# Altium integrated library Analog Devices Data Converters Analog-to-Digital Converters.IntLib: 2404 symbols (part 66 of 346)
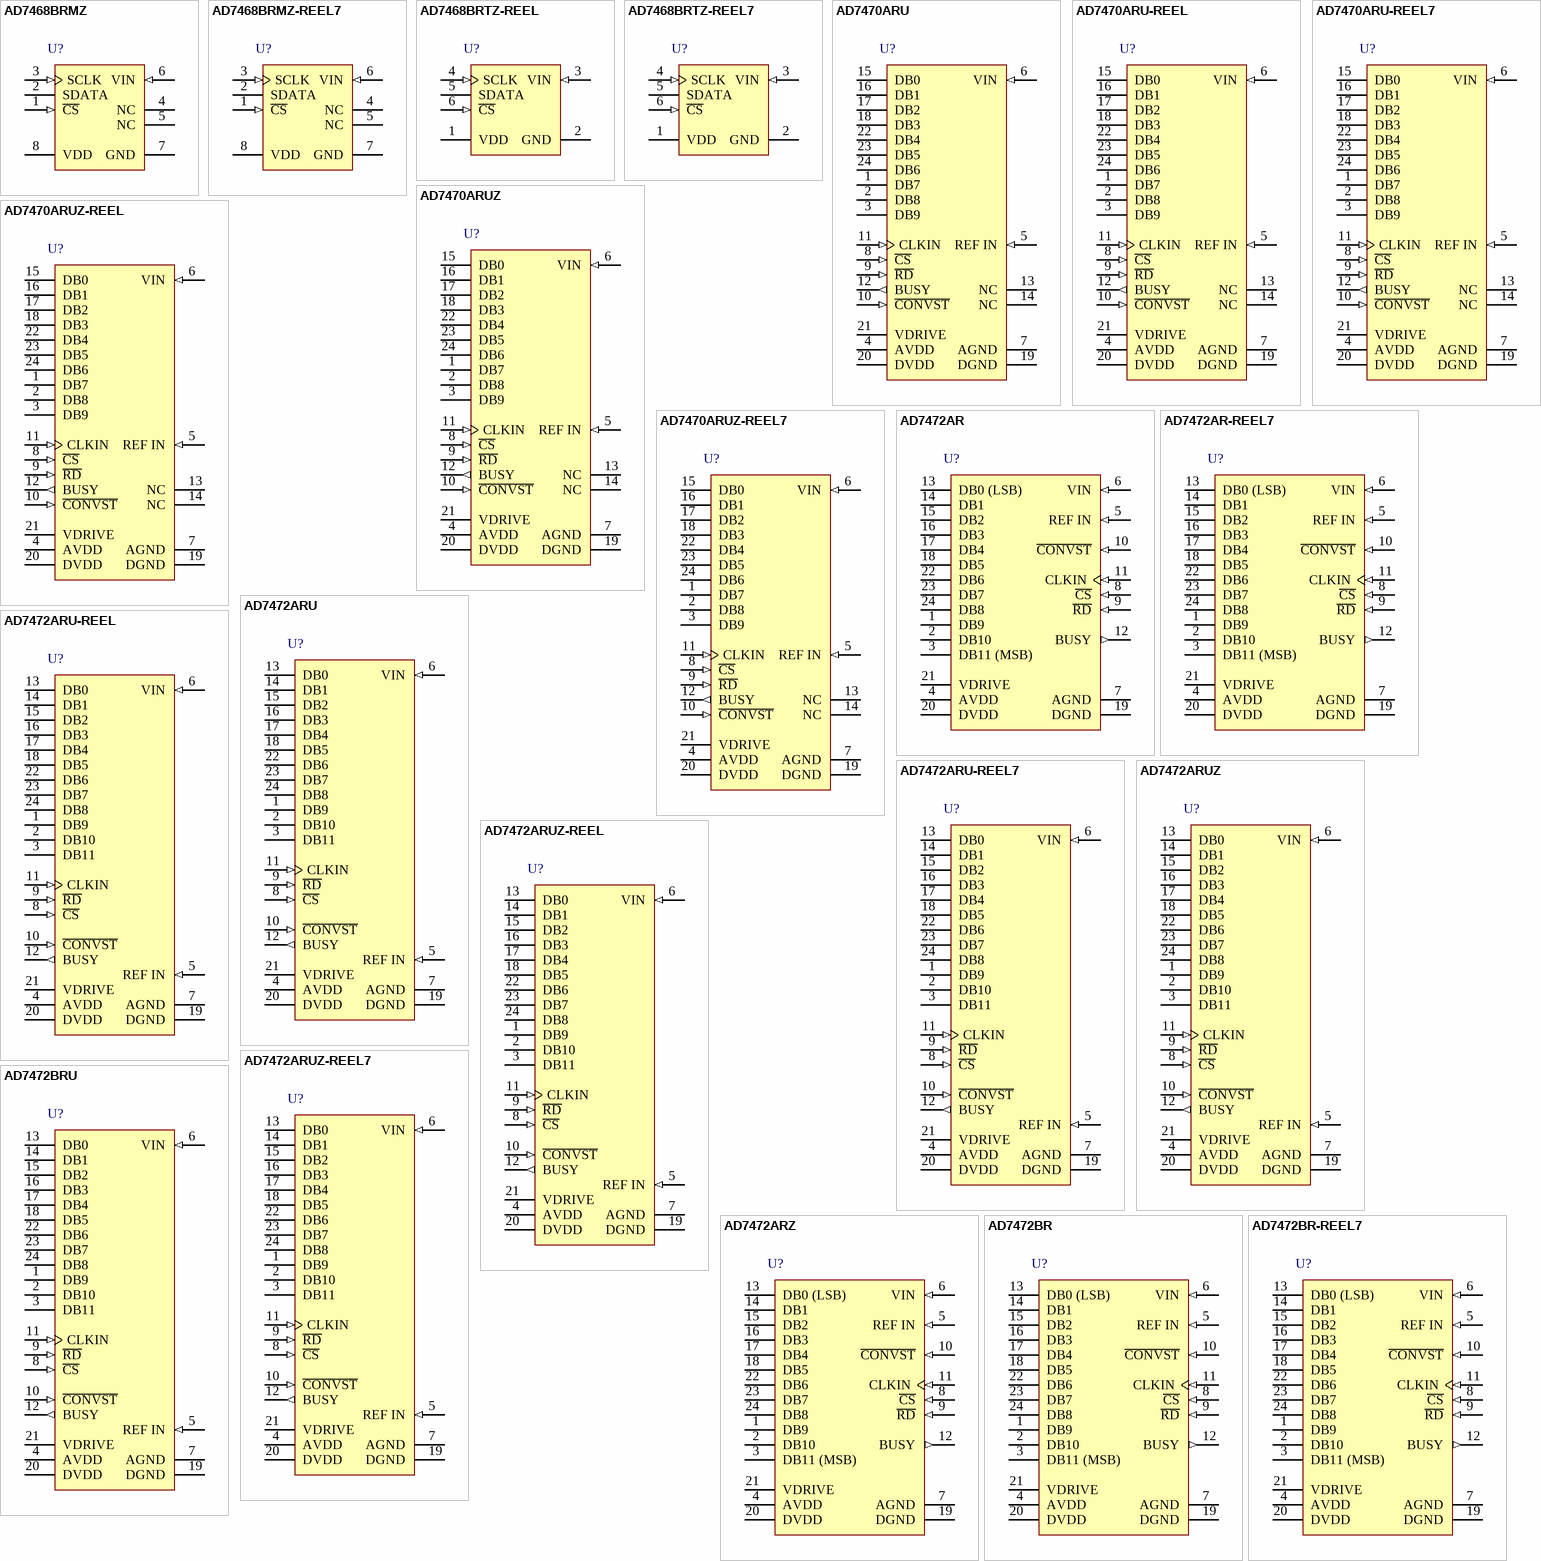
[diagram p191: symbols AD7468BRMZ to AD7472BRU]

## AD7472ARUZ-REEL7
designator U?
Single 12-Bit Analog-to-Digital Converter with Parallel Interface, 4 mW, 1.5MSPS, -40 to +85 degC, RU-24, Pb-Free, Reel; Generic Part Number: AD7472; Manufacturer: Analog Devices; PartNumber: AD7472ARUZ-REEL7; Resolution (Bits): 12; Channels: 1; Throughput Rate (SPS): 1.5M; Interface: Par; DatasheetVersion: Rev.B; PackageVersion: 2002; PackageReference: RU-24; PackageDescription: 24-Lead Thin Shrink Small Outline Package [TSSOP]; Supplier 1: Digi-Key; Supplier Part Number 1: AD7472ARUZ-REEL7-ND; Supplier 2: Mouser; Supplier Part Number 2: 584-AD7472ARUZ-R7; RoHS: Y; Packing: Reel; Mounting Technology: Surface Mount; Code_JEDEC: MO-153-AD; ComponentLink1Description: Manufacturer URL; ComponentLink1URL: http://www.analog.com/en/index.html; ComponentLink2Description: Datasheet; ComponentLink2URL: http://www.analog.com/static/imported-files/data_sheets/AD7470_7472.pdf; ComponentLink3Description: Package Specification; ComponentLink3URL: http://www.analog.com/static/imported-files/packages/380523655245964505593671154107510036154RU24.pdf; ComponentLink4Description: Product URL; ComponentLink4URL: http://www.analog.com/en/analog-to-digital-converters/ad-converters/ad7472/products/product.html
footprint RU-24_N (TSOP, 24-Leads, Body 7.8x4.4mm, Pitch 0.65mm, IPC Medium Density)
footprint RU-24_L (TSOP, 24-Leads, Body 7.8x4.4mm, Pitch 0.65mm, IPC High Density)
footprint RU-24_M (TSOP, 24-Leads, Body 7.8x4.4mm, Pitch 0.65mm, IPC Low Density)
pins: 1 DB9 (hiz) "Parallel digital outputs that provide the conversion result for the part. These are three-state outputs that are controlled by C\S\ and R\D\. The output high voltage level for these outputs is determined by the VDRIVE input.", 2 DB10 (hiz) "Parallel digital outputs that provide the conversion result for the part. These are three-state outputs that are controlled by C\S\ and R\D\. The output high voltage level for these outputs is determined by the VDRIVE input.", 3 DB11 (hiz) "Parallel digital outputs that provide the conversion result for the part. These are three-state outputs that are controlled by C\S\ and R\D\. The output high voltage level for these outputs is determined by the VDRIVE input.", 4 AVDD (power) "Analog Supply Voltage, 2.7 V to 5.25 V. This is the only supply voltage for all analog circuitry on the AD7472. The AVDD and DVDD voltages should ideally be at the same potential and must not be more than 0.3 V apart even on (See Datasheet)", 5 REF IN (in) "Reference Input. An external reference must be applied to this input. The voltage range for the external reference is 2.5 V +/-1% for specified performance.", 6 VIN (in) "Analog Input. Single-ended analog input channel. The input range is 0 V to REF IN. The analog input presents a high dc input impedance.", 7 AGND (power) "Analog Ground. Ground reference point for all analog circuitry on the AD7472. All analog input signals and any external reference signal should be referred to this AGND voltage. The AGND and DGND voltages should ideally be (See Datasheet)", 8 ~{CS} (in) "Chip Select. Active low logic input used in conjunction with R\D\ to access the conversion result. The conversion result is placed on the data bus following the falling edge of both C\S\ and R\D\. C\S\ and R\D\ are both (See Datasheet)", 9 ~{RD} (in) "Read Input. Logic input used in conjunction with C\S\ to access the conversion result. The conversion result is placed on the data bus following the falling edge of both C\S\ and R\D\. C\S\ and R\D\ are both connected to (See Datasheet)", 10 ~{CONVST} (in) "Conversion Start Input. Logic input used to initiate conversion. The input track-and-hold amplifier goes from track mode to hold mode on the falling edge of C\O\N\V\S\T\, and the conversion process is initiated at this point.(See Datasheet)", 11 CLKIN (in) "Master Clock Input. The clock source for the conversion process is applied to this pin. Conversion time for the AD7472 takes 14 clock cycles, and conversion time for the AD7470 takes 12 clock cycles. The frequency of this (See Datasheet)", 12 BUSY (out) "BUSY Output. Logic output indicating the status of the conversion process. The BUSY signal goes high after the falling edge of C\O\N\V\S\T\ and stays high for the duration of conversion. Once conversion is complete and the (See Datasheet)", 13 DB0 (hiz) "Parallel digital outputs that provide the conversion result for the part. These are three-state outputs that are controlled by C\S\ and R\D\. The output high voltage level for these outputs is determined by the VDRIVE input.", 14 DB1 (hiz) "Parallel digital outputs that provide the conversion result for the part. These are three-state outputs that are controlled by C\S\ and R\D\. The output high voltage level for these outputs is determined by the VDRIVE input.", 15 DB2 (hiz) "Parallel digital outputs that provide the conversion result for the part. These are three-state outputs that are controlled by C\S\ and R\D\. The output high voltage level for these outputs is determined by the VDRIVE input.", 16 DB3 (hiz) "Parallel digital outputs that provide the conversion result for the part. These are three-state outputs that are controlled by C\S\ and R\D\. The output high voltage level for these outputs is determined by the VDRIVE input.", 17 DB4 (hiz) "Parallel digital outputs that provide the conversion result for the part. These are three-state outputs that are controlled by C\S\ and R\D\. The output high voltage level for these outputs is determined by the VDRIVE input.", 18 DB5 (hiz) "Parallel digital outputs that provide the conversion result for the part. These are three-state outputs that are controlled by C\S\ and R\D\. The output high voltage level for these outputs is determined by the VDRIVE input.", 19 DGND (power) "Digital Ground. This is the ground reference point for all digital circuitry on the AD7472. The DGND and AGND voltages should ideally be at the same potential and must not be more than 0.3 V apart even on a transient basis.", 20 DVDD (power) "Digital Supply Voltage, 2.7 V to 5.25 V. This is the supply voltage for all digital circuitry on the AD7472 aside from the output drivers. The DVDD and AVDD voltages should ideally be at the same potential and must not be (See Datasheet)", 21 VDRIVE (power) "Supply Voltage for the Output Drivers, 2.7 V to 5.25 V. This voltage determines the output high voltage for the data output pins. It allows AVDD and DVDD to operate at 5 V (and maximize the dynamic performance of the (ADC), (See Datasheet)", 22 DB6 (hiz) "Parallel digital outputs that provide the conversion result for the part. These are three-state outputs that are controlled by C\S\ and R\D\. The output high voltage level for these outputs is determined by the VDRIVE input.", 23 DB7 (hiz) "Parallel digital outputs that provide the conversion result for the part. These are three-state outputs that are controlled by C\S\ and R\D\. The output high voltage level for these outputs is determined by the VDRIVE input.", 24 DB8 (hiz) "Parallel digital outputs that provide the conversion result for the part. These are three-state outputs that are controlled by C\S\ and R\D\. The output high voltage level for these outputs is determined by the VDRIVE input."

## AD7472ARZ
designator U?
Single 12-Bit Analog-to-Digital Converter with Parallel Interface, 4 mW, 1.5MSPS, -40 to +85 degC, RW-24, Pb-Free, Tube; Generic Part Number: AD7472; Manufacturer: Analog Devices; PartNumber: AD7472ARZ; Resolution (Bits): 12; Channels: 1; Throughput Rate (SPS): 1.5M; Interface: Par; DatasheetVersion: Rev.B; PackageVersion: 060706-A; PackageReference: RW-24; PackageDescription: 24-Lead Standard Small Outline Package [SOIC_W]; Supplier 1: Digi-Key; Supplier Part Number 1: AD7472ARZ-ND; Supplier 2: Farnell; Supplier Part Number 2: 1079343; Supplier 3: Newark; Supplier Part Number 3: 31M4263; Supplier 4: Mouser; Supplier Part Number 4: 584-AD7472ARZ; RoHS: Y; Packing: Tube; Mounting Technology: Surface Mount; Code_JEDEC: MS-013-AD; ComponentLink1Description: Manufacturer URL; ComponentLink1URL: http://www.analog.com/en/index.html; ComponentLink2Description: Datasheet; ComponentLink2URL: http://www.analog.com/static/imported-files/data_sheets/AD7470_7472.pdf; ComponentLink3Description: Package Specification; ComponentLink3URL: http://www.analog.com/static/imported-files/packages/33665150946139RW_24.pdf; ComponentLink4Description: Product URL; ComponentLink4URL: http://www.analog.com/en/analog-to-digital-converters/ad-converters/ad7472/products/product.html
footprint RW-24_N (SOIC, 24-Leads, Body 15.4x7.5mm, Pitch 1.27mm, IPC Medium Density)
footprint RW-24_L (SOIC, 24-Leads, Body 15.4x7.5mm, Pitch 1.27mm, IPC High Density)
footprint RW-24_M (SOIC, 24-Leads, Body 15.4x7.5mm, Pitch 1.27mm, IPC Low Density)
pins: 1 DB9 (hiz) "Parallel digital outputs that provide the conversion result for the part. These are three-state outputs that are controlled by C\S\ and R\D\. The output high voltage level for these outputs is determined by the VDRIVE input.", 2 DB10 (hiz) "Parallel digital outputs that provide the conversion result for the part. These are three-state outputs that are controlled by C\S\ and R\D\. The output high voltage level for these outputs is determined by the VDRIVE input.", 3 DB11 (MSB) (hiz) "Parallel digital outputs that provide the conversion result for the part. These are three-state outputs that are controlled by C\S\ and R\D\. The output high voltage level for these outputs is determined by the VDRIVE input.", 4 AVDD (power) "Analog Supply Voltage, 2.7 V to 5.25 V. This is the only supply voltage for all analog circuitry on the AD7472. The AVDD and DVDD voltages should ideally be at the same potential and must not be more than 0.3 V apart even on (See Datasheet)", 5 REF IN (in) "Reference Input. An external reference must be applied to this input. The voltage range for the external reference is 2.5 V +/-1% for specified performance.", 6 VIN (in) "Analog Input. Single-ended analog input channel. The input range is 0 V to REF IN. The analog input presents a high dc input impedance.", 7 AGND (power) "Analog Ground. Ground reference point for all analog circuitry on the AD7472. All analog input signals and any external reference signal should be referred to this AGND voltage. The AGND and DGND voltages should ideally be (See Datasheet)", 8 ~{CS} (in) "Chip Select. Active low logic input used in conjunction with R\D\ to access the conversion result. The conversion result is placed on the data bus following the falling edge of both C\S\ and R\D\. C\S\ and R\D\ are both (See Datasheet)", 9 ~{RD} (in) "Read Input. Logic input used in conjunction with C\S\ to access the conversion result. The conversion result is placed on the data bus following the falling edge of both C\S\ and R\D\. C\S\ and R\D\ are both connected to (See Datasheet)", 10 ~{CONVST} (in) "Conversion Start Input. Logic input used to initiate conversion. The input track-and-hold amplifier goes from track mode to hold mode on the falling edge of C\O\N\V\S\T\, and the conversion process is initiated at this point.(See Datasheet)", 11 CLKIN (in) "Master Clock Input. The clock source for the conversion process is applied to this pin. Conversion time for the AD7472 takes 14 clock cycles, and conversion time for the AD7470 takes 12 clock cycles. The frequency of this (See Datasheet)", 12 BUSY (out) "BUSY Output. Logic output indicating the status of the conversion process. The BUSY signal goes high after the falling edge of C\O\N\V\S\T\ and stays high for the duration of conversion. Once conversion is complete and the (See Datasheet)", 13 DB0 (LSB) (hiz) "Parallel digital outputs that provide the conversion result for the part. These are three-state outputs that are controlled by C\S\ and R\D\. The output high voltage level for these outputs is determined by the VDRIVE input.", 14 DB1 (hiz) "Parallel digital outputs that provide the conversion result for the part. These are three-state outputs that are controlled by C\S\ and R\D\. The output high voltage level for these outputs is determined by the VDRIVE input.", 15 DB2 (hiz) "Parallel digital outputs that provide the conversion result for the part. These are three-state outputs that are controlled by C\S\ and R\D\. The output high voltage level for these outputs is determined by the VDRIVE input.", 16 DB3 (hiz) "Parallel digital outputs that provide the conversion result for the part. These are three-state outputs that are controlled by C\S\ and R\D\. The output high voltage level for these outputs is determined by the VDRIVE input.", 17 DB4 (hiz) "Parallel digital outputs that provide the conversion result for the part. These are three-state outputs that are controlled by C\S\ and R\D\. The output high voltage level for these outputs is determined by the VDRIVE input.", 18 DB5 (hiz) "Parallel digital outputs that provide the conversion result for the part. These are three-state outputs that are controlled by C\S\ and R\D\. The output high voltage level for these outputs is determined by the VDRIVE input.", 19 DGND (power) "Digital Ground. This is the ground reference point for all digital circuitry on the AD7472. The DGND and AGND voltages should ideally be at the same potential and must not be more than 0.3 V apart even on a transient basis.", 20 DVDD (power) "Digital Supply Voltage, 2.7 V to 5.25 V. This is the supply voltage for all digital circuitry on the AD7472 aside from the output drivers. The DVDD and AVDD voltages should ideally be at the same potential and must not be (See Datasheet)", 21 VDRIVE (power) "Supply Voltage for the Output Drivers, 2.7 V to 5.25 V. This voltage determines the output high voltage for the data output pins. It allows AVDD and DVDD to operate at 5 V (and maximize the dynamic performance of the (ADC), (See Datasheet)", 22 DB6 (hiz) "Parallel digital outputs that provide the conversion result for the part. These are three-state outputs that are controlled by C\S\ and R\D\. The output high voltage level for these outputs is determined by the VDRIVE input.", 23 DB7 (hiz) "Parallel digital outputs that provide the conversion result for the part. These are three-state outputs that are controlled by C\S\ and R\D\. The output high voltage level for these outputs is determined by the VDRIVE input.", 24 DB8 (hiz) "Parallel digital outputs that provide the conversion result for the part. These are three-state outputs that are controlled by C\S\ and R\D\. The output high voltage level for these outputs is determined by the VDRIVE input."

## AD7472BR
designator U?
Single 12-Bit Analog-to-Digital Converter with Parallel Interface, 4 mW, 1.5MSPS, -40 to +85 degC, RW-24, Tube; Generic Part Number: AD7472; Manufacturer: Analog Devices; PartNumber: AD7472BR; Resolution (Bits): 12; Channels: 1; Throughput Rate (SPS): 1.5M; Interface: Par; DatasheetVersion: Rev.B; PackageVersion: 060706-A; PackageReference: RW-24; PackageDescription: 24-Lead Standard Small Outline Package [SOIC_W]; RoHS: N; Packing: Tube; Mounting Technology: Surface Mount; Code_JEDEC: MS-013-AD; ComponentLink1Description: Manufacturer URL; ComponentLink1URL: http://www.analog.com/en/index.html; ComponentLink2Description: Datasheet; ComponentLink2URL: http://www.analog.com/static/imported-files/data_sheets/AD7470_7472.pdf; ComponentLink3Description: Package Specification; ComponentLink3URL: http://www.analog.com/static/imported-files/packages/33665150946139RW_24.pdf; ComponentLink4Description: Product URL; ComponentLink4URL: http://www.analog.com/en/analog-to-digital-converters/ad-converters/ad7472/products/product.html
footprint RW-24_N (SOIC, 24-Leads, Body 15.4x7.5mm, Pitch 1.27mm, IPC Medium Density)
footprint RW-24_L (SOIC, 24-Leads, Body 15.4x7.5mm, Pitch 1.27mm, IPC High Density)
footprint RW-24_M (SOIC, 24-Leads, Body 15.4x7.5mm, Pitch 1.27mm, IPC Low Density)
pins: 1 DB9 (hiz) "Parallel digital outputs that provide the conversion result for the part. These are three-state outputs that are controlled by C\S\ and R\D\. The output high voltage level for these outputs is determined by the VDRIVE input.", 2 DB10 (hiz) "Parallel digital outputs that provide the conversion result for the part. These are three-state outputs that are controlled by C\S\ and R\D\. The output high voltage level for these outputs is determined by the VDRIVE input.", 3 DB11 (MSB) (hiz) "Parallel digital outputs that provide the conversion result for the part. These are three-state outputs that are controlled by C\S\ and R\D\. The output high voltage level for these outputs is determined by the VDRIVE input.", 4 AVDD (power) "Analog Supply Voltage, 2.7 V to 5.25 V. This is the only supply voltage for all analog circuitry on the AD7472. The AVDD and DVDD voltages should ideally be at the same potential and must not be more than 0.3 V apart even on (See Datasheet)", 5 REF IN (in) "Reference Input. An external reference must be applied to this input. The voltage range for the external reference is 2.5 V +/-1% for specified performance.", 6 VIN (in) "Analog Input. Single-ended analog input channel. The input range is 0 V to REF IN. The analog input presents a high dc input impedance.", 7 AGND (power) "Analog Ground. Ground reference point for all analog circuitry on the AD7472. All analog input signals and any external reference signal should be referred to this AGND voltage. The AGND and DGND voltages should ideally be (See Datasheet)", 8 ~{CS} (in) "Chip Select. Active low logic input used in conjunction with R\D\ to access the conversion result. The conversion result is placed on the data bus following the falling edge of both C\S\ and R\D\. C\S\ and R\D\ are both (See Datasheet)", 9 ~{RD} (in) "Read Input. Logic input used in conjunction with C\S\ to access the conversion result. The conversion result is placed on the data bus following the falling edge of both C\S\ and R\D\. C\S\ and R\D\ are both connected to (See Datasheet)", 10 ~{CONVST} (in) "Conversion Start Input. Logic input used to initiate conversion. The input track-and-hold amplifier goes from track mode to hold mode on the falling edge of C\O\N\V\S\T\, and the conversion process is initiated at this point.(See Datasheet)", 11 CLKIN (in) "Master Clock Input. The clock source for the conversion process is applied to this pin. Conversion time for the AD7472 takes 14 clock cycles, and conversion time for the AD7470 takes 12 clock cycles. The frequency of this (See Datasheet)", 12 BUSY (out) "BUSY Output. Logic output indicating the status of the conversion process. The BUSY signal goes high after the falling edge of C\O\N\V\S\T\ and stays high for the duration of conversion. Once conversion is complete and the (See Datasheet)", 13 DB0 (LSB) (hiz) "Parallel digital outputs that provide the conversion result for the part. These are three-state outputs that are controlled by C\S\ and R\D\. The output high voltage level for these outputs is determined by the VDRIVE input.", 14 DB1 (hiz) "Parallel digital outputs that provide the conversion result for the part. These are three-state outputs that are controlled by C\S\ and R\D\. The output high voltage level for these outputs is determined by the VDRIVE input.", 15 DB2 (hiz) "Parallel digital outputs that provide the conversion result for the part. These are three-state outputs that are controlled by C\S\ and R\D\. The output high voltage level for these outputs is determined by the VDRIVE input.", 16 DB3 (hiz) "Parallel digital outputs that provide the conversion result for the part. These are three-state outputs that are controlled by C\S\ and R\D\. The output high voltage level for these outputs is determined by the VDRIVE input.", 17 DB4 (hiz) "Parallel digital outputs that provide the conversion result for the part. These are three-state outputs that are controlled by C\S\ and R\D\. The output high voltage level for these outputs is determined by the VDRIVE input.", 18 DB5 (hiz) "Parallel digital outputs that provide the conversion result for the part. These are three-state outputs that are controlled by C\S\ and R\D\. The output high voltage level for these outputs is determined by the VDRIVE input.", 19 DGND (power) "Digital Ground. This is the ground reference point for all digital circuitry on the AD7472. The DGND and AGND voltages should ideally be at the same potential and must not be more than 0.3 V apart even on a transient basis.", 20 DVDD (power) "Digital Supply Voltage, 2.7 V to 5.25 V. This is the supply voltage for all digital circuitry on the AD7472 aside from the output drivers. The DVDD and AVDD voltages should ideally be at the same potential and must not be (See Datasheet)", 21 VDRIVE (power) "Supply Voltage for the Output Drivers, 2.7 V to 5.25 V. This voltage determines the output high voltage for the data output pins. It allows AVDD and DVDD to operate at 5 V (and maximize the dynamic performance of the (ADC), (See Datasheet)", 22 DB6 (hiz) "Parallel digital outputs that provide the conversion result for the part. These are three-state outputs that are controlled by C\S\ and R\D\. The output high voltage level for these outputs is determined by the VDRIVE input.", 23 DB7 (hiz) "Parallel digital outputs that provide the conversion result for the part. These are three-state outputs that are controlled by C\S\ and R\D\. The output high voltage level for these outputs is determined by the VDRIVE input.", 24 DB8 (hiz) "Parallel digital outputs that provide the conversion result for the part. These are three-state outputs that are controlled by C\S\ and R\D\. The output high voltage level for these outputs is determined by the VDRIVE input."

## AD7472BR-REEL7
designator U?
Single 12-Bit Analog-to-Digital Converter with Parallel Interface, 4 mW, 1.5MSPS, -40 to +85 degC, RW-24, Reel; Generic Part Number: AD7472; Manufacturer: Analog Devices; PartNumber: AD7472BR-REEL7; Resolution (Bits): 12; Channels: 1; Throughput Rate (SPS): 1.5M; Interface: Par; DatasheetVersion: Rev.B; PackageVersion: 060706-A; PackageReference: RW-24; PackageDescription: 24-Lead Standard Small Outline Package [SOIC_W]; Supplier 1: Digi-Key; Supplier Part Number 1: AD7472BR-REEL7TR-ND; Supplier 2: Digi-Key; Supplier Part Number 2: AD7472BR-REEL7CT-ND; Supplier 3: Digi-Key; Supplier Part Number 3: AD7472BR-REEL7DKR-ND; Supplier 4: Mouser; Supplier Part Number 4: 584-AD7472BR-R7; RoHS: N; Packing: Reel; Mounting Technology: Surface Mount; Code_JEDEC: MS-013-AD; ComponentLink1Description: Manufacturer URL; ComponentLink1URL: http://www.analog.com/en/index.html; ComponentLink2Description: Datasheet; ComponentLink2URL: http://www.analog.com/static/imported-files/data_sheets/AD7470_7472.pdf; ComponentLink3Description: Package Specification; ComponentLink3URL: http://www.analog.com/static/imported-files/packages/33665150946139RW_24.pdf; ComponentLink4Description: Product URL; ComponentLink4URL: http://www.analog.com/en/analog-to-digital-converters/ad-converters/ad7472/products/product.html
footprint RW-24_N (SOIC, 24-Leads, Body 15.4x7.5mm, Pitch 1.27mm, IPC Medium Density)
footprint RW-24_L (SOIC, 24-Leads, Body 15.4x7.5mm, Pitch 1.27mm, IPC High Density)
footprint RW-24_M (SOIC, 24-Leads, Body 15.4x7.5mm, Pitch 1.27mm, IPC Low Density)
pins: 1 DB9 (hiz) "Parallel digital outputs that provide the conversion result for the part. These are three-state outputs that are controlled by C\S\ and R\D\. The output high voltage level for these outputs is determined by the VDRIVE input.", 2 DB10 (hiz) "Parallel digital outputs that provide the conversion result for the part. These are three-state outputs that are controlled by C\S\ and R\D\. The output high voltage level for these outputs is determined by the VDRIVE input.", 3 DB11 (MSB) (hiz) "Parallel digital outputs that provide the conversion result for the part. These are three-state outputs that are controlled by C\S\ and R\D\. The output high voltage level for these outputs is determined by the VDRIVE input.", 4 AVDD (power) "Analog Supply Voltage, 2.7 V to 5.25 V. This is the only supply voltage for all analog circuitry on the AD7472. The AVDD and DVDD voltages should ideally be at the same potential and must not be more than 0.3 V apart even on (See Datasheet)", 5 REF IN (in) "Reference Input. An external reference must be applied to this input. The voltage range for the external reference is 2.5 V +/-1% for specified performance.", 6 VIN (in) "Analog Input. Single-ended analog input channel. The input range is 0 V to REF IN. The analog input presents a high dc input impedance.", 7 AGND (power) "Analog Ground. Ground reference point for all analog circuitry on the AD7472. All analog input signals and any external reference signal should be referred to this AGND voltage. The AGND and DGND voltages should ideally be (See Datasheet)", 8 ~{CS} (in) "Chip Select. Active low logic input used in conjunction with R\D\ to access the conversion result. The conversion result is placed on the data bus following the falling edge of both C\S\ and R\D\. C\S\ and R\D\ are both (See Datasheet)", 9 ~{RD} (in) "Read Input. Logic input used in conjunction with C\S\ to access the conversion result. The conversion result is placed on the data bus following the falling edge of both C\S\ and R\D\. C\S\ and R\D\ are both connected to (See Datasheet)", 10 ~{CONVST} (in) "Conversion Start Input. Logic input used to initiate conversion. The input track-and-hold amplifier goes from track mode to hold mode on the falling edge of C\O\N\V\S\T\, and the conversion process is initiated at this point.(See Datasheet)", 11 CLKIN (in) "Master Clock Input. The clock source for the conversion process is applied to this pin. Conversion time for the AD7472 takes 14 clock cycles, and conversion time for the AD7470 takes 12 clock cycles. The frequency of this (See Datasheet)", 12 BUSY (out) "BUSY Output. Logic output indicating the status of the conversion process. The BUSY signal goes high after the falling edge of C\O\N\V\S\T\ and stays high for the duration of conversion. Once conversion is complete and the (See Datasheet)", 13 DB0 (LSB) (hiz) "Parallel digital outputs that provide the conversion result for the part. These are three-state outputs that are controlled by C\S\ and R\D\. The output high voltage level for these outputs is determined by the VDRIVE input.", 14 DB1 (hiz) "Parallel digital outputs that provide the conversion result for the part. These are three-state outputs that are controlled by C\S\ and R\D\. The output high voltage level for these outputs is determined by the VDRIVE input.", 15 DB2 (hiz) "Parallel digital outputs that provide the conversion result for the part. These are three-state outputs that are controlled by C\S\ and R\D\. The output high voltage level for these outputs is determined by the VDRIVE input.", 16 DB3 (hiz) "Parallel digital outputs that provide the conversion result for the part. These are three-state outputs that are controlled by C\S\ and R\D\. The output high voltage level for these outputs is determined by the VDRIVE input.", 17 DB4 (hiz) "Parallel digital outputs that provide the conversion result for the part. These are three-state outputs that are controlled by C\S\ and R\D\. The output high voltage level for these outputs is determined by the VDRIVE input.", 18 DB5 (hiz) "Parallel digital outputs that provide the conversion result for the part. These are three-state outputs that are controlled by C\S\ and R\D\. The output high voltage level for these outputs is determined by the VDRIVE input.", 19 DGND (power) "Digital Ground. This is the ground reference point for all digital circuitry on the AD7472. The DGND and AGND voltages should ideally be at the same potential and must not be more than 0.3 V apart even on a transient basis.", 20 DVDD (power) "Digital Supply Voltage, 2.7 V to 5.25 V. This is the supply voltage for all digital circuitry on the AD7472 aside from the output drivers. The DVDD and AVDD voltages should ideally be at the same potential and must not be (See Datasheet)", 21 VDRIVE (power) "Supply Voltage for the Output Drivers, 2.7 V to 5.25 V. This voltage determines the output high voltage for the data output pins. It allows AVDD and DVDD to operate at 5 V (and maximize the dynamic performance of the (ADC), (See Datasheet)", 22 DB6 (hiz) "Parallel digital outputs that provide the conversion result for the part. These are three-state outputs that are controlled by C\S\ and R\D\. The output high voltage level for these outputs is determined by the VDRIVE input.", 23 DB7 (hiz) "Parallel digital outputs that provide the conversion result for the part. These are three-state outputs that are controlled by C\S\ and R\D\. The output high voltage level for these outputs is determined by the VDRIVE input.", 24 DB8 (hiz) "Parallel digital outputs that provide the conversion result for the part. These are three-state outputs that are controlled by C\S\ and R\D\. The output high voltage level for these outputs is determined by the VDRIVE input."

## AD7472BRU
designator U?
Single 12-Bit Analog-to-Digital Converter with Parallel Interface, 4 mW, 1.5MSPS, -40 to +85 degC, RU-24, Tube; Generic Part Number: AD7472; Manufacturer: Analog Devices; PartNumber: AD7472BRU; Resolution (Bits): 12; Channels: 1; Throughput Rate (SPS): 1.5M; Interface: Par; DatasheetVersion: Rev.B; PackageVersion: 2002; PackageReference: RU-24; PackageDescription: 24-Lead Thin Shrink Small Outline Package [TSSOP]; Supplier 1: Digi-Key; Supplier Part Number 1: AD7472BRU-ND; Supplier 2: Mouser; Supplier Part Number 2: 584-AD7472BRU; RoHS: N; Packing: Tube; Mounting Technology: Surface Mount; Code_JEDEC: MO-153-AD; ComponentLink1Description: Manufacturer URL; ComponentLink1URL: http://www.analog.com/en/index.html; ComponentLink2Description: Datasheet; ComponentLink2URL: http://www.analog.com/static/imported-files/data_sheets/AD7470_7472.pdf; ComponentLink3Description: Package Specification; ComponentLink3URL: http://www.analog.com/static/imported-files/packages/380523655245964505593671154107510036154RU24.pdf; ComponentLink4Description: Product URL; ComponentLink4URL: http://www.analog.com/en/analog-to-digital-converters/ad-converters/ad7472/products/product.html
footprint RU-24_N (TSOP, 24-Leads, Body 7.8x4.4mm, Pitch 0.65mm, IPC Medium Density)
footprint RU-24_L (TSOP, 24-Leads, Body 7.8x4.4mm, Pitch 0.65mm, IPC High Density)
footprint RU-24_M (TSOP, 24-Leads, Body 7.8x4.4mm, Pitch 0.65mm, IPC Low Density)
pins: 1 DB9 (hiz) "Parallel digital outputs that provide the conversion result for the part. These are three-state outputs that are controlled by C\S\ and R\D\. The output high voltage level for these outputs is determined by the VDRIVE input.", 2 DB10 (hiz) "Parallel digital outputs that provide the conversion result for the part. These are three-state outputs that are controlled by C\S\ and R\D\. The output high voltage level for these outputs is determined by the VDRIVE input.", 3 DB11 (hiz) "Parallel digital outputs that provide the conversion result for the part. These are three-state outputs that are controlled by C\S\ and R\D\. The output high voltage level for these outputs is determined by the VDRIVE input.", 4 AVDD (power) "Analog Supply Voltage, 2.7 V to 5.25 V. This is the only supply voltage for all analog circuitry on the AD7472. The AVDD and DVDD voltages should ideally be at the same potential and must not be more than 0.3 V apart even on (See Datasheet)", 5 REF IN (in) "Reference Input. An external reference must be applied to this input. The voltage range for the external reference is 2.5 V +/-1% for specified performance.", 6 VIN (in) "Analog Input. Single-ended analog input channel. The input range is 0 V to REF IN. The analog input presents a high dc input impedance.", 7 AGND (power) "Analog Ground. Ground reference point for all analog circuitry on the AD7472. All analog input signals and any external reference signal should be referred to this AGND voltage. The AGND and DGND voltages should ideally be (See Datasheet)", 8 ~{CS} (in) "Chip Select. Active low logic input used in conjunction with R\D\ to access the conversion result. The conversion result is placed on the data bus following the falling edge of both C\S\ and R\D\. C\S\ and R\D\ are both (See Datasheet)", 9 ~{RD} (in) "Read Input. Logic input used in conjunction with C\S\ to access the conversion result. The conversion result is placed on the data bus following the falling edge of both C\S\ and R\D\. C\S\ and R\D\ are both connected to (See Datasheet)", 10 ~{CONVST} (in) "Conversion Start Input. Logic input used to initiate conversion. The input track-and-hold amplifier goes from track mode to hold mode on the falling edge of C\O\N\V\S\T\, and the conversion process is initiated at this point.(See Datasheet)", 11 CLKIN (in) "Master Clock Input. The clock source for the conversion process is applied to this pin. Conversion time for the AD7472 takes 14 clock cycles, and conversion time for the AD7470 takes 12 clock cycles. The frequency of this (See Datasheet)", 12 BUSY (out) "BUSY Output. Logic output indicating the status of the conversion process. The BUSY signal goes high after the falling edge of C\O\N\V\S\T\ and stays high for the duration of conversion. Once conversion is complete and the (See Datasheet)", 13 DB0 (hiz) "Parallel digital outputs that provide the conversion result for the part. These are three-state outputs that are controlled by C\S\ and R\D\. The output high voltage level for these outputs is determined by the VDRIVE input.", 14 DB1 (hiz) "Parallel digital outputs that provide the conversion result for the part. These are three-state outputs that are controlled by C\S\ and R\D\. The output high voltage level for these outputs is determined by the VDRIVE input.", 15 DB2 (hiz) "Parallel digital outputs that provide the conversion result for the part. These are three-state outputs that are controlled by C\S\ and R\D\. The output high voltage level for these outputs is determined by the VDRIVE input.", 16 DB3 (hiz) "Parallel digital outputs that provide the conversion result for the part. These are three-state outputs that are controlled by C\S\ and R\D\. The output high voltage level for these outputs is determined by the VDRIVE input.", 17 DB4 (hiz) "Parallel digital outputs that provide the conversion result for the part. These are three-state outputs that are controlled by C\S\ and R\D\. The output high voltage level for these outputs is determined by the VDRIVE input.", 18 DB5 (hiz) "Parallel digital outputs that provide the conversion result for the part. These are three-state outputs that are controlled by C\S\ and R\D\. The output high voltage level for these outputs is determined by the VDRIVE input.", 19 DGND (power) "Digital Ground. This is the ground reference point for all digital circuitry on the AD7472. The DGND and AGND voltages should ideally be at the same potential and must not be more than 0.3 V apart even on a transient basis.", 20 DVDD (power) "Digital Supply Voltage, 2.7 V to 5.25 V. This is the supply voltage for all digital circuitry on the AD7472 aside from the output drivers. The DVDD and AVDD voltages should ideally be at the same potential and must not be (See Datasheet)", 21 VDRIVE (power) "Supply Voltage for the Output Drivers, 2.7 V to 5.25 V. This voltage determines the output high voltage for the data output pins. It allows AVDD and DVDD to operate at 5 V (and maximize the dynamic performance of the (ADC), (See Datasheet)", 22 DB6 (hiz) "Parallel digital outputs that provide the conversion result for the part. These are three-state outputs that are controlled by C\S\ and R\D\. The output high voltage level for these outputs is determined by the VDRIVE input.", 23 DB7 (hiz) "Parallel digital outputs that provide the conversion result for the part. These are three-state outputs that are controlled by C\S\ and R\D\. The output high voltage level for these outputs is determined by the VDRIVE input.", 24 DB8 (hiz) "Parallel digital outputs that provide the conversion result for the part. These are three-state outputs that are controlled by C\S\ and R\D\. The output high voltage level for these outputs is determined by the VDRIVE input."

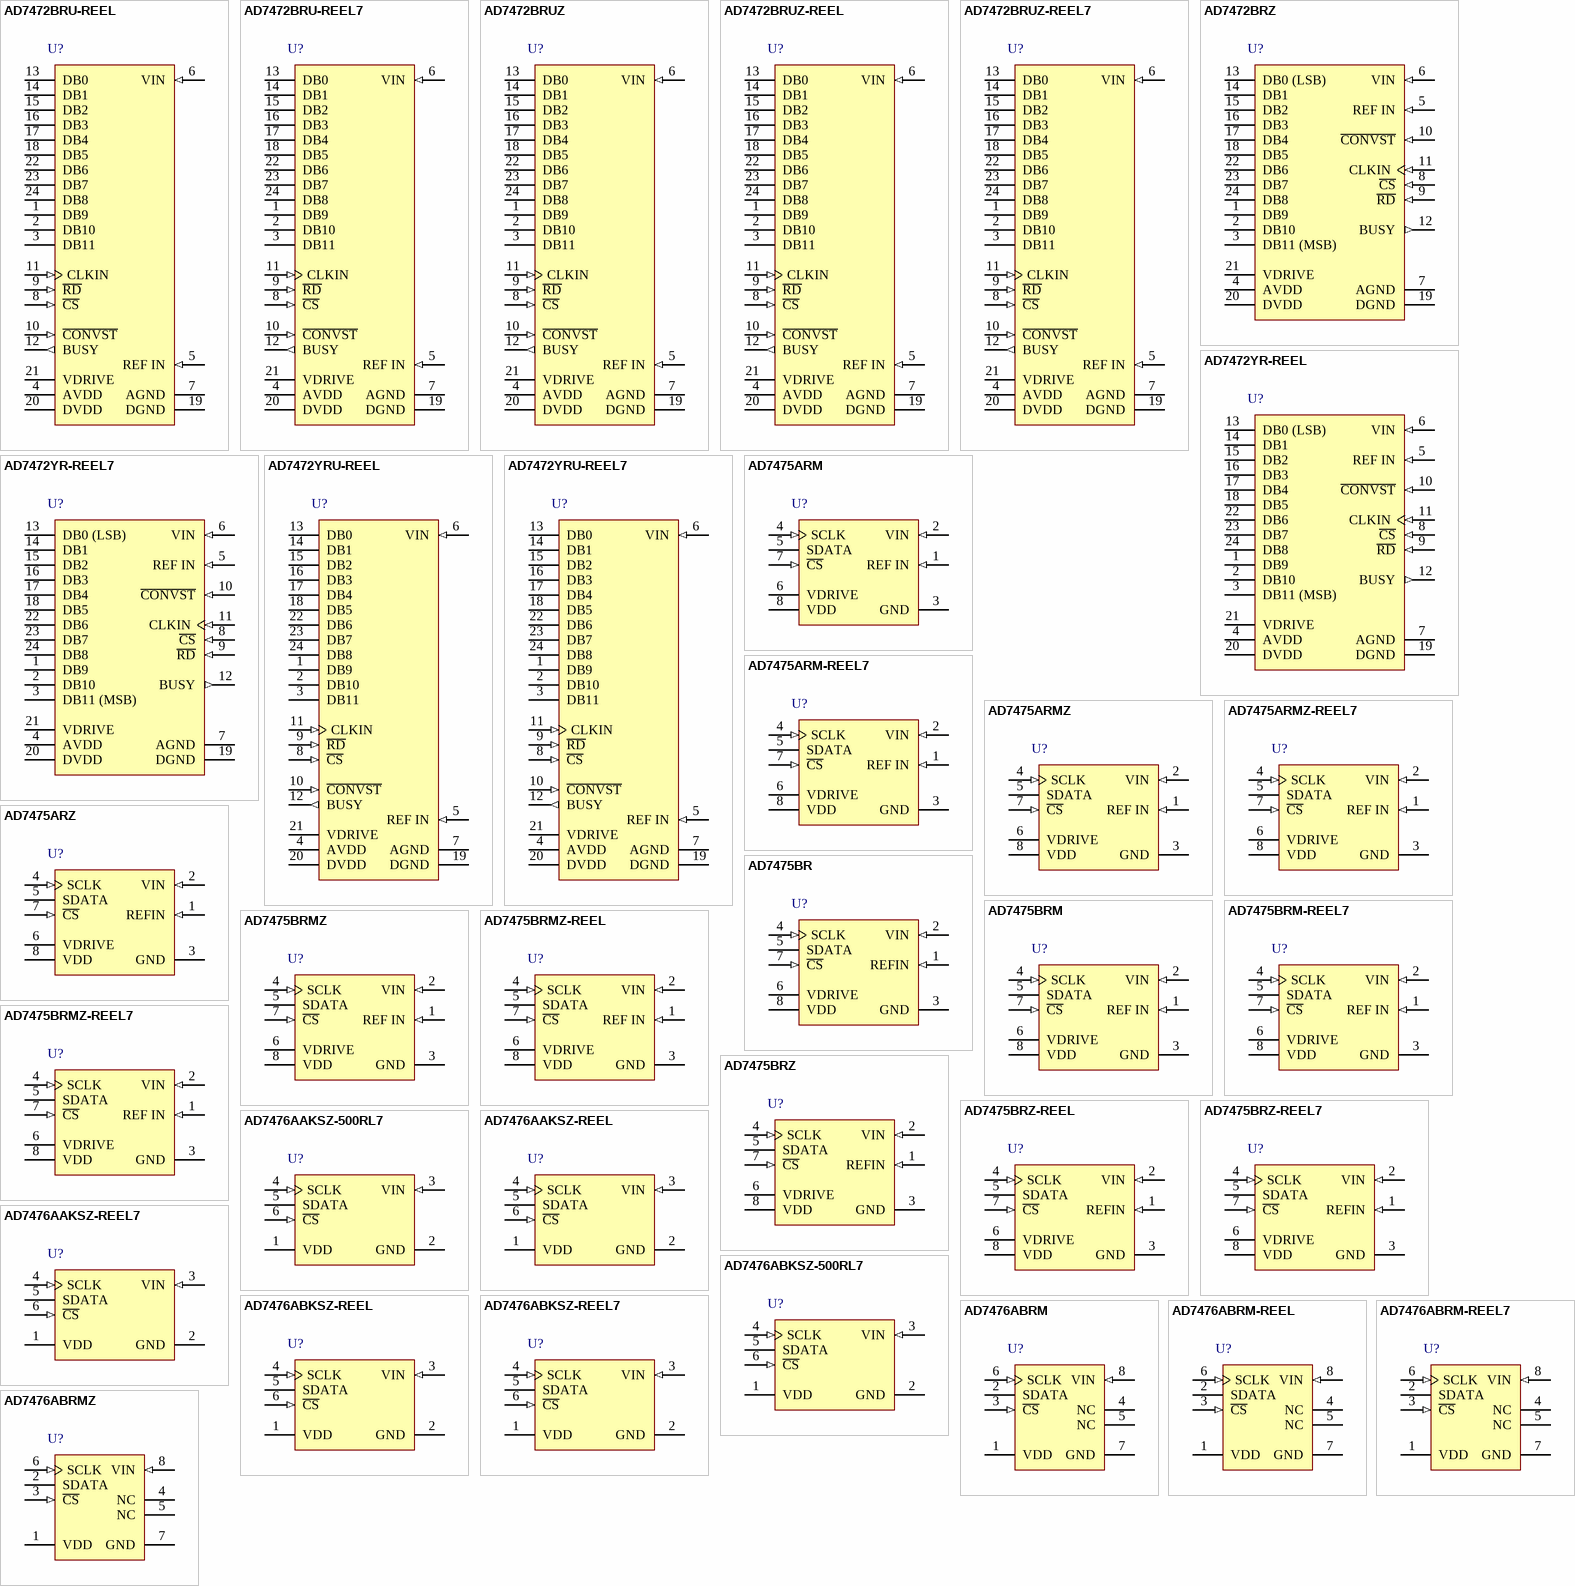
[diagram p24: symbols AD7472BRU-REEL to AD7476ABRMZ]

## AD7472BRU-REEL
designator U?
Single 12-Bit Analog-to-Digital Converter with Parallel Interface, 4 mW, 1.5MSPS, -40 to +85 degC, RU-24, Reel; Generic Part Number: AD7472; Manufacturer: Analog Devices; PartNumber: AD7472BRU-REEL; Resolution (Bits): 12; Channels: 1; Throughput Rate (SPS): 1.5M; Interface: Par; DatasheetVersion: Rev.B; PackageVersion: 2002; PackageReference: RU-24; PackageDescription: 24-Lead Thin Shrink Small Outline Package [TSSOP]; Supplier 1: Digi-Key; Supplier Part Number 1: AD7472BRU-REEL-ND; Supplier 2: Newark; Supplier Part Number 2: 98B7275; Supplier 3: Mouser; Supplier Part Number 3: 584-AD7472BRU-R; RoHS: N; Packing: Reel; Mounting Technology: Surface Mount; Code_JEDEC: MO-153-AD; ComponentLink1Description: Manufacturer URL; ComponentLink1URL: http://www.analog.com/en/index.html; ComponentLink2Description: Datasheet; ComponentLink2URL: http://www.analog.com/static/imported-files/data_sheets/AD7470_7472.pdf; ComponentLink3Description: Package Specification; ComponentLink3URL: http://www.analog.com/static/imported-files/packages/380523655245964505593671154107510036154RU24.pdf; ComponentLink4Description: Product URL; ComponentLink4URL: http://www.analog.com/en/analog-to-digital-converters/ad-converters/ad7472/products/product.html
footprint RU-24_N (TSOP, 24-Leads, Body 7.8x4.4mm, Pitch 0.65mm, IPC Medium Density)
footprint RU-24_L (TSOP, 24-Leads, Body 7.8x4.4mm, Pitch 0.65mm, IPC High Density)
footprint RU-24_M (TSOP, 24-Leads, Body 7.8x4.4mm, Pitch 0.65mm, IPC Low Density)
pins: 1 DB9 (hiz) "Parallel digital outputs that provide the conversion result for the part. These are three-state outputs that are controlled by C\S\ and R\D\. The output high voltage level for these outputs is determined by the VDRIVE input.", 2 DB10 (hiz) "Parallel digital outputs that provide the conversion result for the part. These are three-state outputs that are controlled by C\S\ and R\D\. The output high voltage level for these outputs is determined by the VDRIVE input.", 3 DB11 (hiz) "Parallel digital outputs that provide the conversion result for the part. These are three-state outputs that are controlled by C\S\ and R\D\. The output high voltage level for these outputs is determined by the VDRIVE input.", 4 AVDD (power) "Analog Supply Voltage, 2.7 V to 5.25 V. This is the only supply voltage for all analog circuitry on the AD7472. The AVDD and DVDD voltages should ideally be at the same potential and must not be more than 0.3 V apart even on (See Datasheet)", 5 REF IN (in) "Reference Input. An external reference must be applied to this input. The voltage range for the external reference is 2.5 V +/-1% for specified performance.", 6 VIN (in) "Analog Input. Single-ended analog input channel. The input range is 0 V to REF IN. The analog input presents a high dc input impedance.", 7 AGND (power) "Analog Ground. Ground reference point for all analog circuitry on the AD7472. All analog input signals and any external reference signal should be referred to this AGND voltage. The AGND and DGND voltages should ideally be (See Datasheet)", 8 ~{CS} (in) "Chip Select. Active low logic input used in conjunction with R\D\ to access the conversion result. The conversion result is placed on the data bus following the falling edge of both C\S\ and R\D\. C\S\ and R\D\ are both (See Datasheet)", 9 ~{RD} (in) "Read Input. Logic input used in conjunction with C\S\ to access the conversion result. The conversion result is placed on the data bus following the falling edge of both C\S\ and R\D\. C\S\ and R\D\ are both connected to (See Datasheet)", 10 ~{CONVST} (in) "Conversion Start Input. Logic input used to initiate conversion. The input track-and-hold amplifier goes from track mode to hold mode on the falling edge of C\O\N\V\S\T\, and the conversion process is initiated at this point.(See Datasheet)", 11 CLKIN (in) "Master Clock Input. The clock source for the conversion process is applied to this pin. Conversion time for the AD7472 takes 14 clock cycles, and conversion time for the AD7470 takes 12 clock cycles. The frequency of this (See Datasheet)", 12 BUSY (out) "BUSY Output. Logic output indicating the status of the conversion process. The BUSY signal goes high after the falling edge of C\O\N\V\S\T\ and stays high for the duration of conversion. Once conversion is complete and the (See Datasheet)", 13 DB0 (hiz) "Parallel digital outputs that provide the conversion result for the part. These are three-state outputs that are controlled by C\S\ and R\D\. The output high voltage level for these outputs is determined by the VDRIVE input.", 14 DB1 (hiz) "Parallel digital outputs that provide the conversion result for the part. These are three-state outputs that are controlled by C\S\ and R\D\. The output high voltage level for these outputs is determined by the VDRIVE input.", 15 DB2 (hiz) "Parallel digital outputs that provide the conversion result for the part. These are three-state outputs that are controlled by C\S\ and R\D\. The output high voltage level for these outputs is determined by the VDRIVE input.", 16 DB3 (hiz) "Parallel digital outputs that provide the conversion result for the part. These are three-state outputs that are controlled by C\S\ and R\D\. The output high voltage level for these outputs is determined by the VDRIVE input.", 17 DB4 (hiz) "Parallel digital outputs that provide the conversion result for the part. These are three-state outputs that are controlled by C\S\ and R\D\. The output high voltage level for these outputs is determined by the VDRIVE input.", 18 DB5 (hiz) "Parallel digital outputs that provide the conversion result for the part. These are three-state outputs that are controlled by C\S\ and R\D\. The output high voltage level for these outputs is determined by the VDRIVE input.", 19 DGND (power) "Digital Ground. This is the ground reference point for all digital circuitry on the AD7472. The DGND and AGND voltages should ideally be at the same potential and must not be more than 0.3 V apart even on a transient basis.", 20 DVDD (power) "Digital Supply Voltage, 2.7 V to 5.25 V. This is the supply voltage for all digital circuitry on the AD7472 aside from the output drivers. The DVDD and AVDD voltages should ideally be at the same potential and must not be (See Datasheet)", 21 VDRIVE (power) "Supply Voltage for the Output Drivers, 2.7 V to 5.25 V. This voltage determines the output high voltage for the data output pins. It allows AVDD and DVDD to operate at 5 V (and maximize the dynamic performance of the (ADC), (See Datasheet)", 22 DB6 (hiz) "Parallel digital outputs that provide the conversion result for the part. These are three-state outputs that are controlled by C\S\ and R\D\. The output high voltage level for these outputs is determined by the VDRIVE input.", 23 DB7 (hiz) "Parallel digital outputs that provide the conversion result for the part. These are three-state outputs that are controlled by C\S\ and R\D\. The output high voltage level for these outputs is determined by the VDRIVE input.", 24 DB8 (hiz) "Parallel digital outputs that provide the conversion result for the part. These are three-state outputs that are controlled by C\S\ and R\D\. The output high voltage level for these outputs is determined by the VDRIVE input."